# Altium schematic symbol library Jumper connector.SchLib: 1 symbol
Pins are listed as number, name and electrical type; pins without a type are passive.

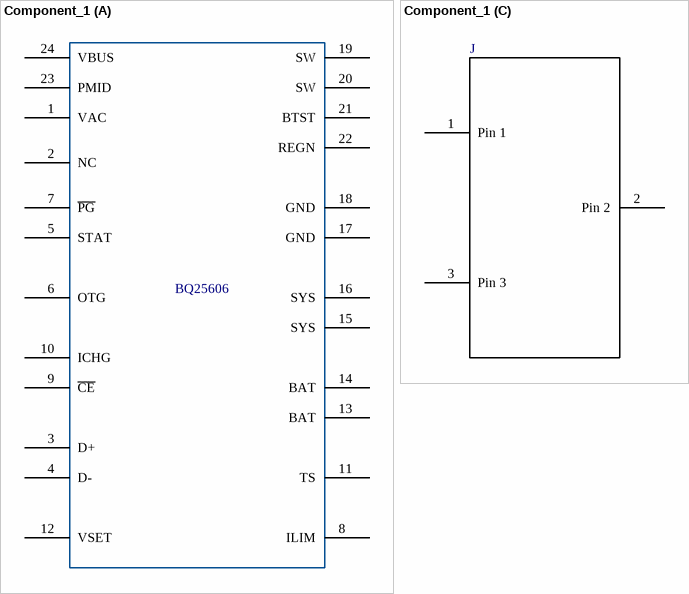
[diagram p0: symbol Component_1]

## Component_1
designator J1
part A pins: 1 VAC, 2 NC, 3 D+, 4 D-, 5 STAT, 6 OTG, 7 ~{PG}, 8 ILIM, 9 ~{CE}, 10 ICHG, 11 TS, 12 VSET, 13 BAT, 14 BAT, 15 SYS, 16 SYS, 17 GND, 18 GND, 19 SW, 20 SW, 21 BTST, 22 REGN, 23 PMID, 24 VBUS
part C pins: 1 Pin 1, 2 Pin 2, 3 Pin 3
part A text: BQ25606
part C text: J